# Altium schematic symbol library Screw Terminal 2P.SchLib: 1 symbol
Pins are listed as number, name and electrical type; pins without a type are passive.

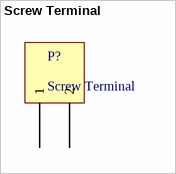
[diagram p0: symbol Screw Terminal]

## Screw Terminal
designator P?
Screw Terminal Block Connector 2 Pins
footprint PCBComponent_1
pins: 1, 2